# EAGLE library part BTE-040-01-F-D-A (library NIPCB)
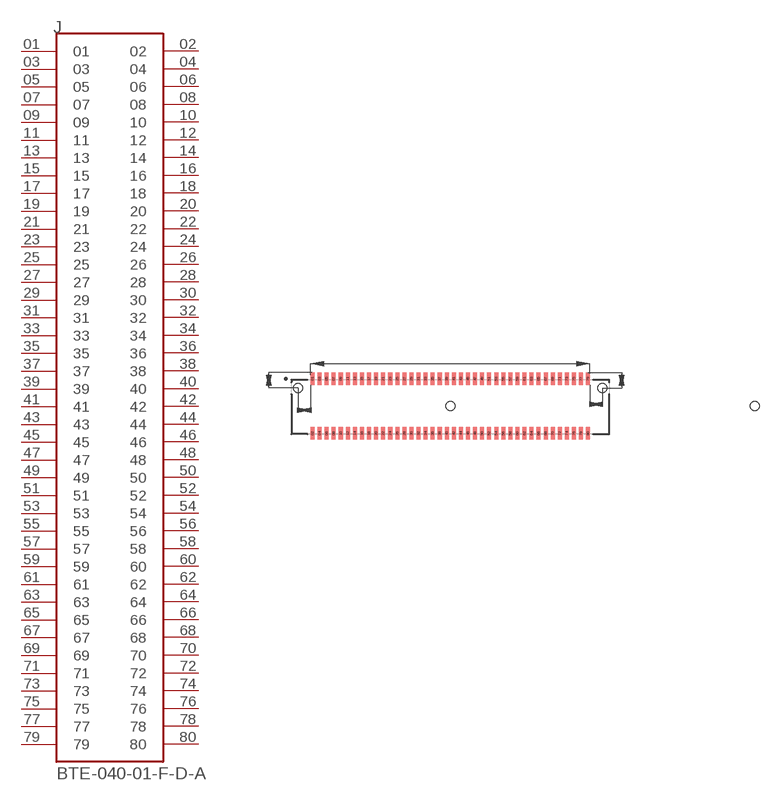
[diagram p16: symbol with the pads of SAMTEC_BTE-040-01-F-D-A; footprint SAMTEC_BTE-040-01-F-D-A]

Designator prefix J

## BTE-040-01-F-D-A (MANUFACTURER: Samtec; PARTREV: R; STANDARD: Manufacturer Recommendations)  [SAMTEC_BTE-040-01-F-D-A]
01  01  pas
02  02  pas
03  03  pas
04  04  pas
05  05  pas
06  06  pas
07  07  pas
08  08  pas
09  09  pas
10  10  pas
11  11  pas
12  12  pas
13  13  pas
14  14  pas
15  15  pas
16  16  pas
17  17  pas
18  18  pas
19  19  pas
20  20  pas
21  21  pas
22  22  pas
23  23  pas
24  24  pas
25  25  pas
26  26  pas
27  27  pas
28  28  pas
29  29  pas
30  30  pas
31  31  pas
32  32  pas
33  33  pas
34  34  pas
35  35  pas
36  36  pas
37  37  pas
38  38  pas
39  39  pas
40  40  pas
41  41  pas
42  42  pas
43  43  pas
44  44  pas
45  45  pas
46  46  pas
47  47  pas
48  48  pas
49  49  pas
50  50  pas
51  51  pas
52  52  pas
53  53  pas
54  54  pas
55  55  pas
56  56  pas
57  57  pas
58  58  pas
59  59  pas
60  60  pas
61  61  pas
62  62  pas
63  63  pas
64  64  pas
65  65  pas
66  66  pas
67  67  pas
68  68  pas
69  69  pas
70  70  pas
71  71  pas
72  72  pas
73  73  pas
74  74  pas
75  75  pas
76  76  pas
77  77  pas
78  78  pas
79  79  pas
80  80  pas

## Footprint SAMTEC_BTE-040-01-F-D-A (pad centres in mm)
smd 0.457 x 1.44: 01 -15.6,3.086; 02 -15.6,-3.086; 03 -14.8,3.086; 04 -14.8,-3.086; 05 -14,3.086; 06 -14,-3.086; 07 -13.2,3.086; 08 -13.2,-3.086; 09 -12.4,3.086; 10 -12.4,-3.086; 11 -11.6,3.086; 12 -11.6,-3.086; 13 -10.8,3.086; 14 -10.8,-3.086; 15 -10,3.086; 16 -10,-3.086; 17 -9.2,3.086; 18 -9.2,-3.086; 19 -8.4,3.086; 20 -8.4,-3.086; 21 -7.6,3.086; 22 -7.6,-3.086; 23 -6.8,3.086; 24 -6.8,-3.086; 25 -6,3.086; 26 -6,-3.086; 27 -5.2,3.086; 28 -5.2,-3.086; 29 -4.4,3.086; 30 -4.4,-3.086; 31 -3.6,3.086; 32 -3.6,-3.086; 33 -2.8,3.086; 34 -2.8,-3.086; 35 -2,3.086; 36 -2,-3.086; 37 -1.2,3.086; 38 -1.2,-3.086; 39 -0.4,3.086; 40 -0.4,-3.086; 41 0.4,3.086; 42 0.4,-3.086; 43 1.2,3.086; 44 1.2,-3.086; 45 2,3.086; 46 2,-3.086; 47 2.8,3.086; 48 2.8,-3.086; 49 3.6,3.086; 50 3.6,-3.086; 51 4.4,3.086; 52 4.4,-3.086; 53 5.2,3.086; 54 5.2,-3.086; 55 6,3.086; 56 6,-3.086; 57 6.8,3.086; 58 6.8,-3.086; 59 7.6,3.086; 60 7.6,-3.086; 61 8.4,3.086; 62 8.4,-3.086; 63 9.2,3.086; 64 9.2,-3.086; 65 10,3.086; 66 10,-3.086; 67 10.8,3.086; 68 10.8,-3.086; 69 11.6,3.086; 70 11.6,-3.086; 71 12.4,3.086; 72 12.4,-3.086; 73 13.2,3.086; 74 13.2,-3.086; 75 14,3.086; 76 14,-3.086; 77 14.8,3.086; 78 14.8,-3.086; 79 15.6,3.086; 80 15.6,-3.086
hole 1.016 at -17.238,2.032
hole 1.016 at 17.238,2.032
hole 1.016 at 0.002,0.002
hole 1.016 at 34.478,0.002